# EAGLE library part VPH5 (library wheat)
INDUCTOR, VPH5
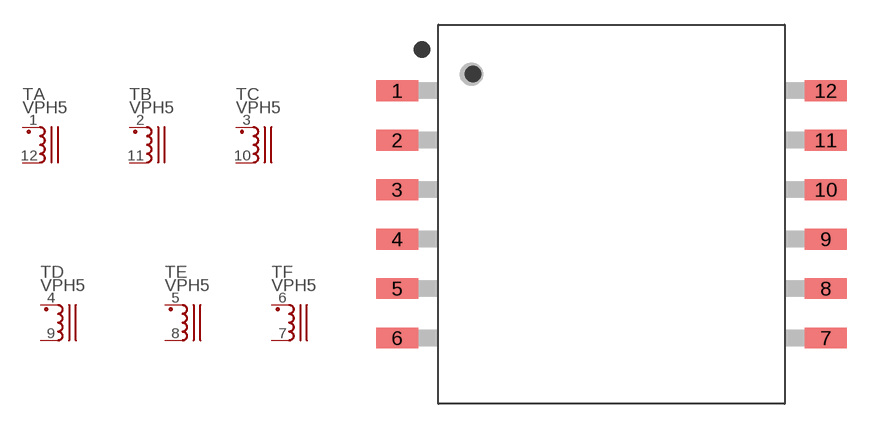
[diagram p33: symbol with the pads of IND_VP5; footprint IND_VP5]

Designator prefix T; gates A=IND B=IND C=IND D=IND E=IND F=IND

## VPH5  [IND_VP5]
1  A:1  pas
2  B:1  pas
3  C:1  pas
4  D:1  pas
5  E:1  pas
6  F:1  pas
7  F:2  pas
8  E:2  pas
9  D:2  pas
10  C:2  pas
11  B:2  pas
12  A:2  pas

## Footprint IND_VP5 (pad centres in mm)
INDUCTOR, VPH5
smd 2.54 x 1.27: 1 -13,7.5; 2 -13,4.5; 3 -13,1.5; 4 -13,-1.5; 5 -13,-4.5; 6 -13,-7.5; 7 13,-7.5; 8 13,-4.5; 9 13,-1.5; 10 13,1.5; 11 13,4.5; 12 13,7.5